# Altium footprint library 排针-排母.PcbLib: 177 footprints (part 12 of 12)
Each footprint in its own frame and in the unit in brackets; x right, y up, seen from the top. Pads: shape width x height; smd on the part's side, far side on the other; paste and mask are expansions set on the pad; w line width, h text height; cw(c..) or ccw(c..) is an arc to the next point about the centre after c.
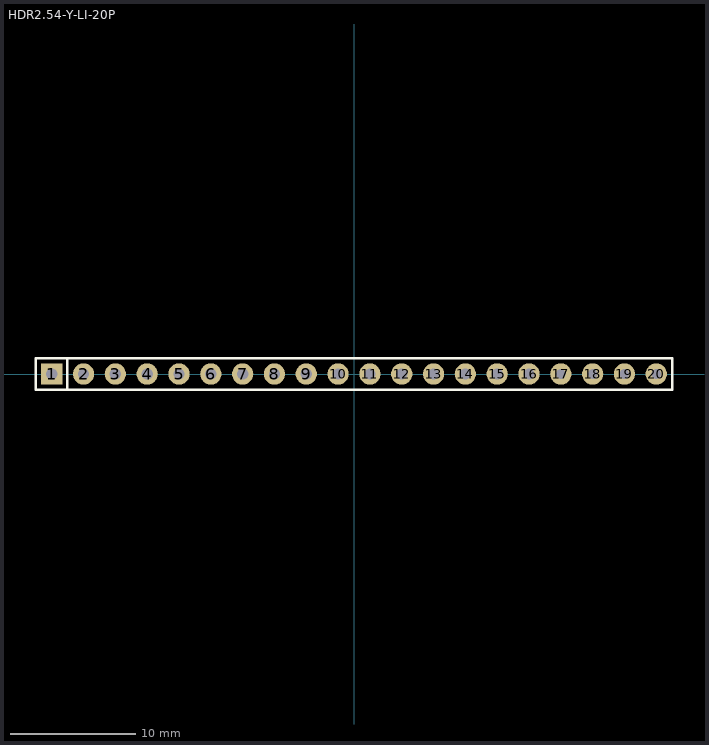
[diagram p11: the footprint, top view; thin cyan lines are the x and y axes]

## HDR2.54-Y-LI-20P [mm] "圆孔排母，20脚"
pads (20):
  rect 1.7x1.7 hole 0.9: 1(-24.13,0)
  round 1.7 hole 0.9: 2(-21.59,0) 3(-19.05,0) 4(-16.51,0) 5(-13.97,0) 6(-11.43,0) 7(-8.89,0) 8(-6.35,0) 9(-3.81,0) 10(-1.27,0) 11(1.27,0) 12(3.81,0) 13(6.35,0) 14(8.89,0) 15(11.43,0) 16(13.97,0)
  round 1.7 hole 0.762: 17(16.51,0) 18(19.05,0) 19(21.59,0) 20(24.13,0)
Top Overlay:
  lines w0.2: -22.88,-1.25 -22.88,1.25 ; -25.4,-1.27 -25.4,1.27 -23.495,1.27 25.4,1.27 25.4,-1.27 -25.4,-1.27
3D body: height 4.31, standoff -3, extent 22.86,-1.27 25.4,1.27
3D body: height 4.31, standoff -3, extent 20.32,-1.27 22.86,1.27
3D body: height 4.31, standoff -3, extent 17.78,-1.27 20.32,1.27
3D body: height 4.31, standoff -3, extent 15.24,-1.27 17.78,1.27
3D body: height 4.31, standoff -3, extent 12.7,-1.27 15.24,1.27
3D body: height 4.31, standoff -3, extent 10.16,-1.27 12.7,1.27
3D body: height 4.31, standoff -3, extent 7.62,-1.27 10.16,1.27
3D body: height 4.31, standoff -3, extent 5.08,-1.27 7.62,1.27
3D body: height 4.31, standoff -3, extent 2.54,-1.27 5.08,1.27
3D body: height 4.31, standoff -3, extent 0,-1.27 2.54,1.27
3D body: height 4.31, standoff -3, extent -2.54,-1.27 0,1.27
3D body: height 4.31, standoff -3, extent -5.08,-1.27 -2.54,1.27
3D body: height 4.31, standoff -3, extent -7.62,-1.27 -5.08,1.27
3D body: height 4.31, standoff -3, extent -10.16,-1.27 -7.62,1.27
3D body: height 4.31, standoff -3, extent -12.7,-1.27 -10.16,1.27
3D body: height 4.31, standoff -3, extent -15.24,-1.27 -12.7,1.27
3D body: height 4.31, standoff -3, extent -17.78,-1.27 -15.24,1.27
3D body: height 4.31, standoff -3, extent -20.32,-1.27 -17.78,1.27
3D body: height 4.31, standoff -3, extent -22.86,-1.27 -20.32,1.27
3D body: height 4.31, standoff -3, extent -25.4,-1.27 -22.86,1.27